# EAGLE library part MAX-M10S-0 (library 2026-01-09_07-46-43_Library)
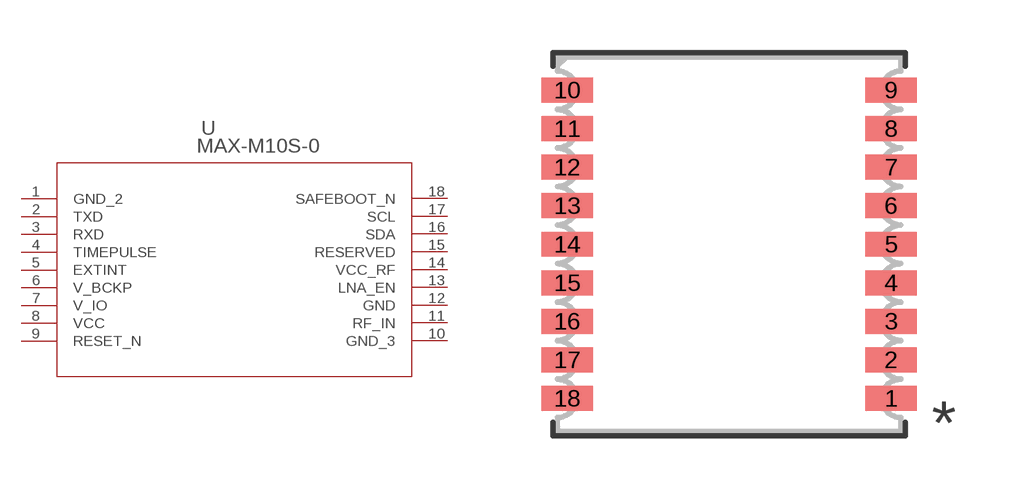
[diagram p0: symbol with the pads of SMT_M10S-0_UBL; footprint SMT_M10S-0_UBL]

Designator prefix U

## MAX-M10S-0SMT_M10S-0_UBL (Copyright: Copyright (C) 2026 Ultra Librarian. All rights reserved.; Manufacturer_Name: Ublox; Manufacturer_Part_Number: MAX-M10S-0)  [SMT_M10S-0_UBL]
1  GND_2  pas
2  TXD  pas
3  RXD  pas
4  TIMEPULSE  pas
5  EXTINT  pas
6  V_BCKP  pas
7  V_IO  pas
8  VCC  pwr
9  RESET_N  pas
10  GND_3  pas
11  RF_IN  pas
12  GND  pas
13  LNA_EN  pas
14  VCC_RF  pwr
15  RESERVED  pas
16  SDA  pas
17  SCL  pas
18  SAFEBOOT_N  pas

## Footprint SMT_M10S-0_UBL (pad centres in mm)
smd 1.473 x 0.711: 1 4.623,-4.4; 2 4.623,-3.3; 3 4.623,-2.2; 4 4.623,-1.1; 5 4.623,0; 6 4.623,1.1; 7 4.623,2.2; 8 4.623,3.3; 9 4.623,4.4; 10 -4.623,4.4; 11 -4.623,3.3; 12 -4.623,2.2; 13 -4.623,1.1; 14 -4.623,0; 15 -4.623,-1.1; 16 -4.623,-2.2; 17 -4.623,-3.3; 18 -4.623,-4.4